# EAGLE library part LTC3114 (library linear)
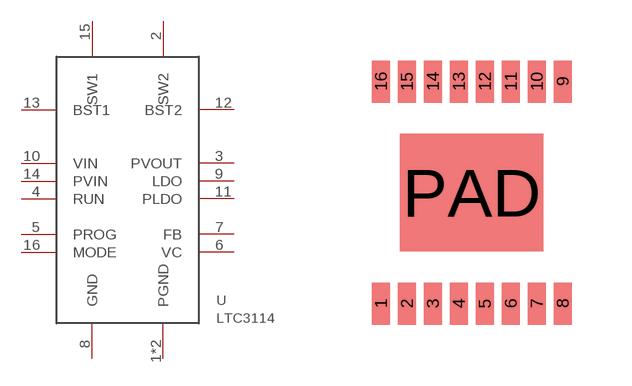
[diagram p1: symbol with the pads of TSSOP-16; footprint TSSOP-16]

Designator prefix -

## LTC3114  [TSSOP-16]
1  PGND
2  SW2
3  PVOUT
4  RUN
5  PROG
6  VC
7  FB
8  GND
9  LDO
10  VIN
11  PLDO
12  BST2
13  BST1
14  PVIN
15  SW1
16  MODE
PAD  PGND

## Footprint TSSOP-16 (pad centres in mm)
smd 0.45 x 1.05: 1 0,0.525; 2 0.65,0.525; 3 1.3,0.525; 4 1.95,0.525; 5 2.6,0.525; 6 3.25,0.525; 7 3.9,0.525; 8 4.55,0.525; 9 4.55,6.075; 10 3.9,6.075; 11 3.25,6.075; 12 2.6,6.075; 13 1.95,6.075; 14 1.3,6.075; 15 0.65,6.075; 16 0,6.075
smd 3.58 x 2.94: PAD 2.275,3.3